# Altium schematic symbol library PLD2-10.Schlib: 1 symbol
Pins are listed as number, name and electrical type; pins without a type are passive.

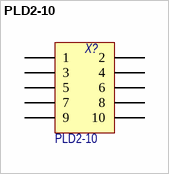
[diagram p0: symbol PLD2-10]

## PLD2-10
designator X?, comment Наименование: PLD2-10  (hidden comment: Header 2X10)
Header, 10-Pin, Dual row; Потребление, Вт: 0,0; Назначение: Header, 10-Pin, Dual row
footprint PBD2-10s
pins: 1, 2, 3, 4, 5, 6, 7, 8, 9, 10